# Altium footprint library RES-SMD-0805.PcbLib: 70 footprints (part 1 of 5)
Each footprint in its own frame and in the unit in brackets; x right, y up, seen from the top. Pads: shape width x height; smd on the part's side, far side on the other; paste and mask are expansions set on the pad; w line width, h text height; cw(c..) or ccw(c..) is an arc to the next point about the centre after c.
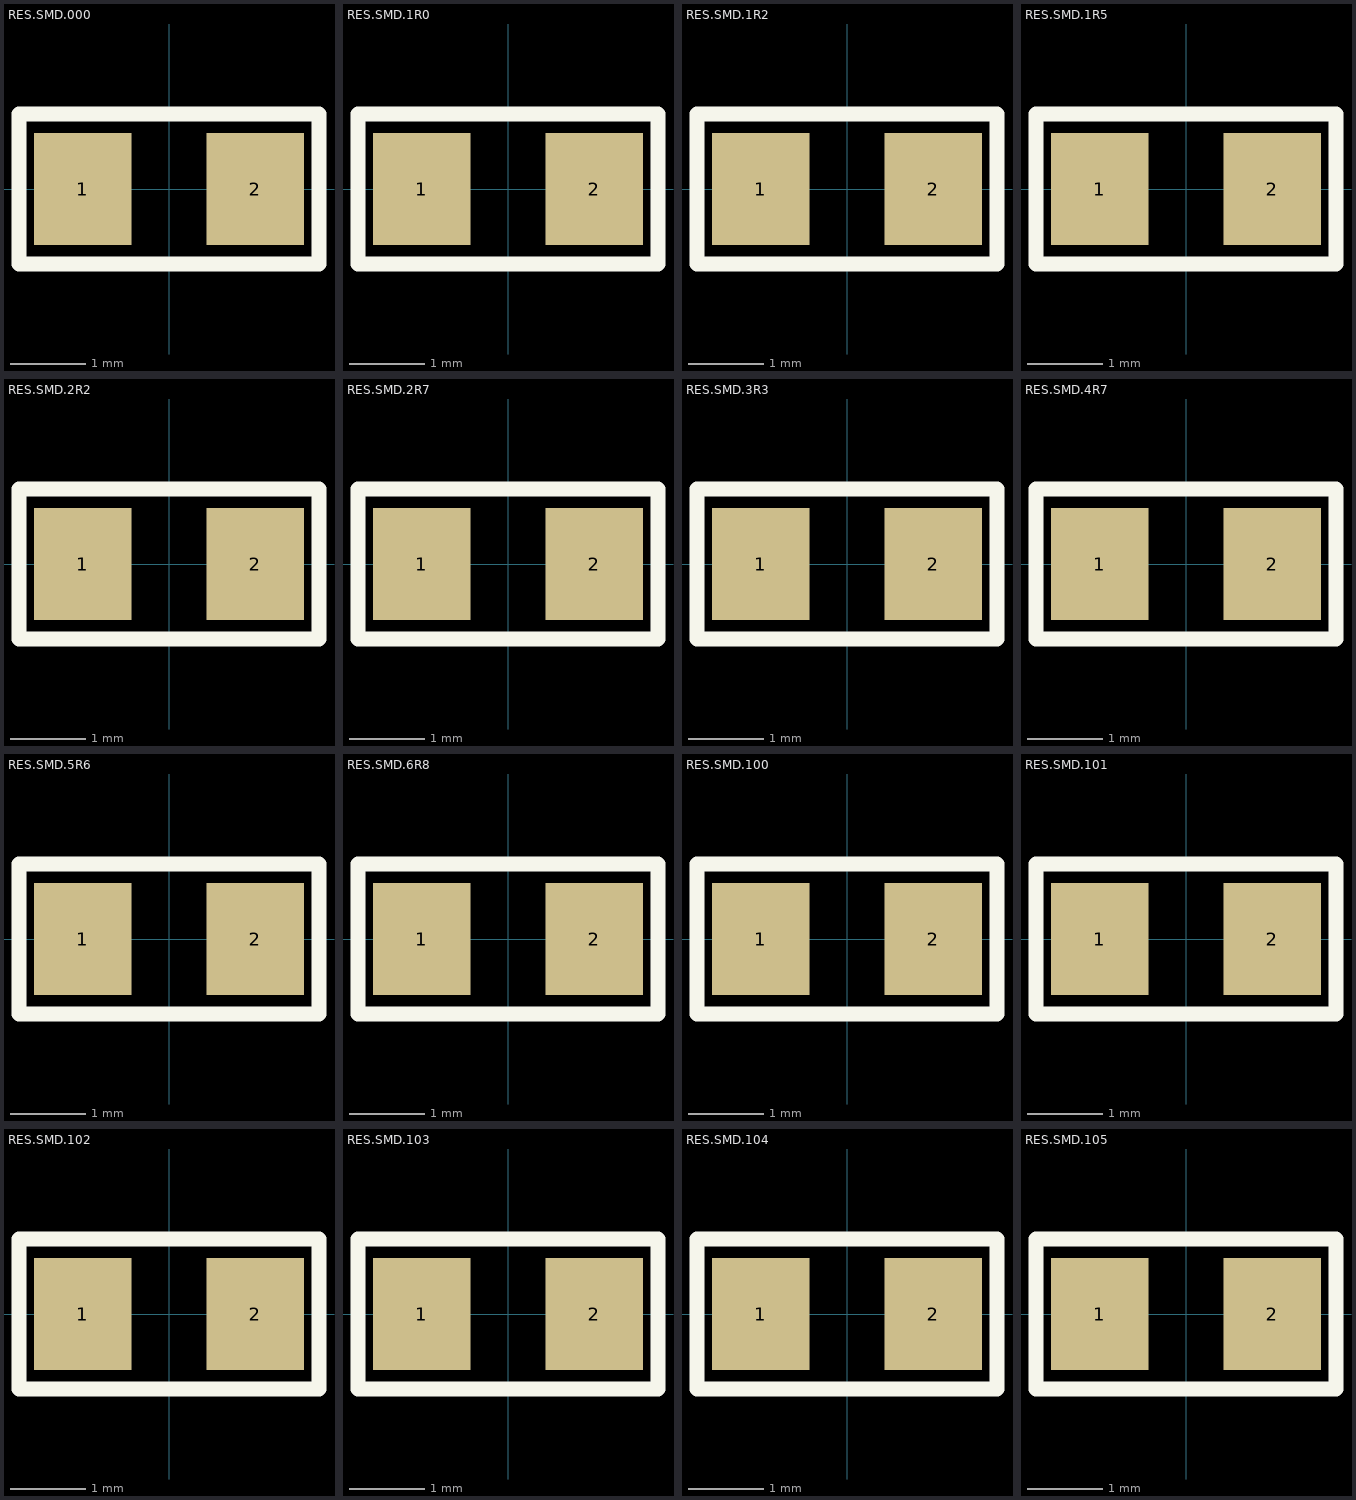
[diagram p0: the footprints below, top view; thin cyan lines are the x and y axes]

## RES.SMD.000 [mm] "5% 0805 1/8W RES.SMD"
pads (2):
  rect 1.3x1.5 smd: 1(-1.15,0) 2(1.15,0)
Top Overlay:
  lines w0.2: -2,-1 -2,1 2,1 2,-1 -2,-1
3D body "RES-SMD-000.stp": height 0.48, standoff -0.02, extent -0.873,-0.625 1.127,0.625

## RES.SMD.1R0 [mm] "5% 0805 1/8W RES.SMD"
pads (2):
  rect 1.3x1.5 smd: 1(-1.15,0) 2(1.15,0)
Top Overlay:
  lines w0.2: -2,-1 -2,1 2,1 2,-1 -2,-1
3D body "RES-SMD-1R0.stp": height 0.48, standoff -0.02, extent -0.873,-0.625 1.127,0.625

## RES.SMD.1R2 [mm] "5% 0805 1/8W RES.SMD"
pads (2):
  rect 1.3x1.5 smd: 1(-1.15,0) 2(1.15,0)
Top Overlay:
  lines w0.2: -2,-1 2,-1 2,1 -2,1 -2,-1
3D body "RES-SMD-1R2.stp": height 0.48, standoff -0.02, extent -0.873,-0.625 1.127,0.625

## RES.SMD.1R5 [mm] "5% 0805 1/8W RES.SMD"
pads (2):
  rect 1.3x1.5 smd: 1(-1.15,0) 2(1.15,0)
Top Overlay:
  lines w0.2: -2,-1 -2,1 2,1 2,-1 -2,-1
3D body "RES-SMD-1R5.stp": height 0.48, standoff -0.02, extent -0.873,-0.625 1.127,0.625

## RES.SMD.2R2 [mm] "5% 0805 1/8W RES.SMD"
pads (2):
  rect 1.3x1.5 smd: 1(-1.15,0) 2(1.15,0)
Top Overlay:
  lines w0.2: -2,-1 2,-1 2,1 -2,1 -2,-1
3D body "RES-SMD-2R2.stp": height 0.48, standoff -0.02, extent -0.873,-0.625 1.127,0.625

## RES.SMD.2R7 [mm] "5% 0805 1/8W RES.SMD"
pads (2):
  rect 1.3x1.5 smd: 1(-1.15,0) 2(1.15,0)
Top Overlay:
  lines w0.2: -2,-1 -2,1 2,1 2,-1 -2,-1
3D body "RES-SMD-2R7.stp": height 0.48, standoff -0.02, extent -0.873,-0.625 1.127,0.625

## RES.SMD.3R3 [mm] "5% 0805 1/8W RES.SMD"
pads (2):
  rect 1.3x1.5 smd: 1(-1.15,0) 2(1.15,0)
Top Overlay:
  lines w0.2: -2,-1 2,-1 2,1 -2,1 -2,-1
3D body "RES-SMD-3R3.stp": height 0.48, standoff -0.02, extent -0.873,-0.625 1.127,0.625

## RES.SMD.4R7 [mm] "5% 0805 1/8W RES.SMD"
pads (2):
  rect 1.3x1.5 smd: 1(-1.15,0) 2(1.15,0)
Top Overlay:
  lines w0.2: -2,-1 -2,1 2,1 2,-1 -2,-1
3D body "RES-SMD-4R7.stp": height 0.48, standoff -0.02, extent -0.873,-0.625 1.127,0.625

## RES.SMD.5R6 [mm] "5% 0805 1/8W RES.SMD"
pads (2):
  rect 1.3x1.5 smd: 1(-1.15,0) 2(1.15,0)
Top Overlay:
  lines w0.2: -2,-1 2,-1 2,1 -2,1 -2,-1
3D body "RES-SMD-5R6.stp": height 0.48, standoff -0.02, extent -0.873,-0.625 1.127,0.625

## RES.SMD.6R8 [mm] "5% 0805 1/8W RES.SMD"
pads (2):
  rect 1.3x1.5 smd: 1(-1.15,0) 2(1.15,0)
Top Overlay:
  lines w0.2: -2,-1 2,-1 2,1 -2,1 -2,-1
3D body "RES-SMD-6R8.stp": height 0.48, standoff -0.02, extent -0.873,-0.625 1.127,0.625

## RES.SMD.100 [mm] "5% 0805 1/8W RES.SMD"
pads (2):
  rect 1.3x1.5 smd: 1(-1.15,0) 2(1.15,0)
Top Overlay:
  lines w0.2: -2,-1 -2,1 2,1 2,-1 -2,-1
3D body "RES-SMD-100.stp": height 0.48, standoff -0.02, extent -0.873,-0.625 1.127,0.625

## RES.SMD.101 [mm] "5% 0805 1/8W RES.SMD"
pads (2):
  rect 1.3x1.5 smd: 1(-1.15,0) 2(1.15,0)
Top Overlay:
  lines w0.2: -2,-1 -2,1 2,1 2,-1 -2,-1
3D body "RES-SMD-101.stp": height 0.48, standoff -0.02, extent -0.873,-0.625 1.127,0.625

## RES.SMD.102 [mm] "5% 0805 1/8W RES.SMD"
pads (2):
  rect 1.3x1.5 smd: 1(-1.15,0) 2(1.15,0)
Top Overlay:
  lines w0.2: -2,-1 -2,1 2,1 2,-1 -2,-1
3D body "RES-SMD-102.stp": height 0.48, standoff -0.02, extent -0.873,-0.625 1.127,0.625

## RES.SMD.103 [mm] "5% 0805 1/8W RES.SMD"
pads (2):
  rect 1.3x1.5 smd: 1(-1.15,0) 2(1.15,0)
Top Overlay:
  lines w0.2: -2,-1 -2,1 2,1 2,-1 -2,-1
3D body "RES-SMD-103.stp": height 0.48, standoff -0.02, extent -0.873,-0.625 1.127,0.625

## RES.SMD.104 [mm] "5% 0805 1/8W RES.SMD"
pads (2):
  rect 1.3x1.5 smd: 1(-1.15,0) 2(1.15,0)
Top Overlay:
  lines w0.2: -2,-1 -2,1 2,1 2,-1 -2,-1
3D body "RES-SMD-104.stp": height 0.48, standoff -0.02, extent -0.873,-0.625 1.127,0.625

## RES.SMD.105 [mm] "5% 0805 1/8W RES.SMD"
pads (2):
  rect 1.3x1.5 smd: 1(-1.15,0) 2(1.15,0)
Top Overlay:
  lines w0.2: -2,-1 2,-1 2,1 -2,1 -2,-1
3D body "RES-SMD-105.stp": height 0.48, standoff -0.02, extent -0.873,-0.625 1.127,0.625